# EAGLE library part M15HP (library subd-15_mixed-signal_harting_gewinkelt)
SUB-D Harting ArtNr. TB 09 60 200 9296 10x Signal + 1xCoax 50 Ohm
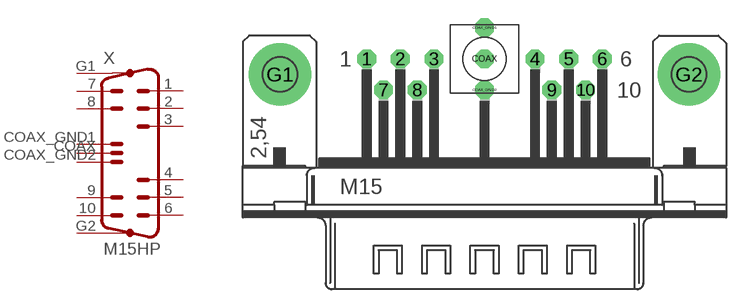
[diagram p0: symbol with the pads of M15HP; footprint M15HP]

Designator prefix X

## M15HP (OC_FARNELL: unknown; OC_NEWARK: unknown)  [M15HP]
1  1  pas
2  2  pas
3  3  pas
4  4  pas
5  5  pas
6  6  pas
7  7  pas
8  8  pas
9  9  pas
10  10  pas
COAX  COAX  pas
COAX_GND1  COAX_GND1  pas
COAX_GND2  COAX_GND2  pas
G1  G1  pas
G2  G2  pas

## Footprint M15HP (pad centres in mm)
SUB-D
drill 1.016 octagon: 1 -9.601,1.27; 2 -6.858,1.27; 3 -4.115,1.27; 4 4.115,1.27; 5 6.858,1.27; 6 9.601,1.27; 7 -8.23,-1.27; 8 -5.486,-1.27; 9 5.486,-1.27; 10 8.23,-1.27; COAX 0,1.27; COAX_GND1 0,3.81; COAX_GND2 0,-1.27
drill 2.8 pad 5.08: G1 -16.662,0; G2 16.662,0